# EAGLE library part LM394 (library AAA_0)
National Dual TRANSISTOR
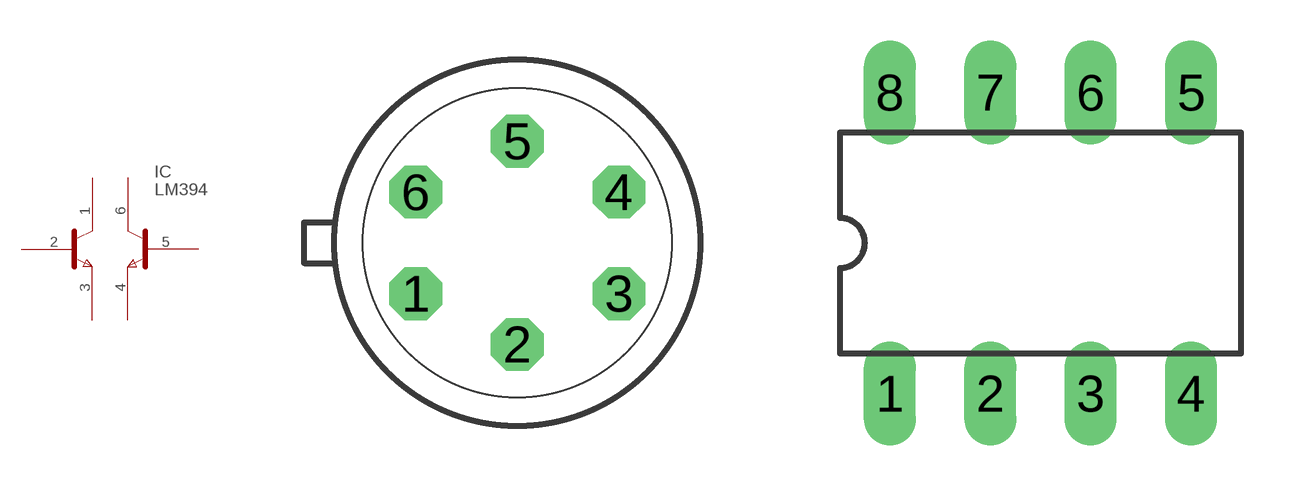
[diagram p11: symbol with the pads of TO78; footprints TO78, DIL08]

Designator prefix IC

## LM394H  [TO78]
1  C1  pas
2  B1  pas
3  E1  pas
4  E2  pas
5  B2  pas
6  C2  pas

## LM394N  [DIL08]
1  C1  pas
2  B1  pas
3  E1  pas
6  E2  pas
7  B2  pas
8  C2  pas

## Footprint TO78 (pad centres in mm)
Metal Can Package
drill 0.813 octagon: 1 -2.54,-1.27; 2 0,-2.54; 3 2.54,-1.27; 4 2.54,1.27; 5 0,2.54; 6 -2.54,1.27

## Footprint DIL08 (pad centres in mm)
Dual In Line 8
drill 0.813 long: 1 -3.81,-3.81; 2 -1.27,-3.81; 3 1.27,-3.81; 4 3.81,-3.81; 5 3.81,3.81; 6 1.27,3.81; 7 -1.27,3.81; 8 -3.81,3.81